# Altium footprint library CTMBLib.PcbLib: 6 footprints
Each footprint in its own frame and in the unit in brackets; x right, y up, seen from the top. Pads: shape width x height; smd on the part's side, far side on the other; paste and mask are expansions set on the pad; w line width, h text height; cw(c..) or ccw(c..) is an arc to the next point about the centre after c.
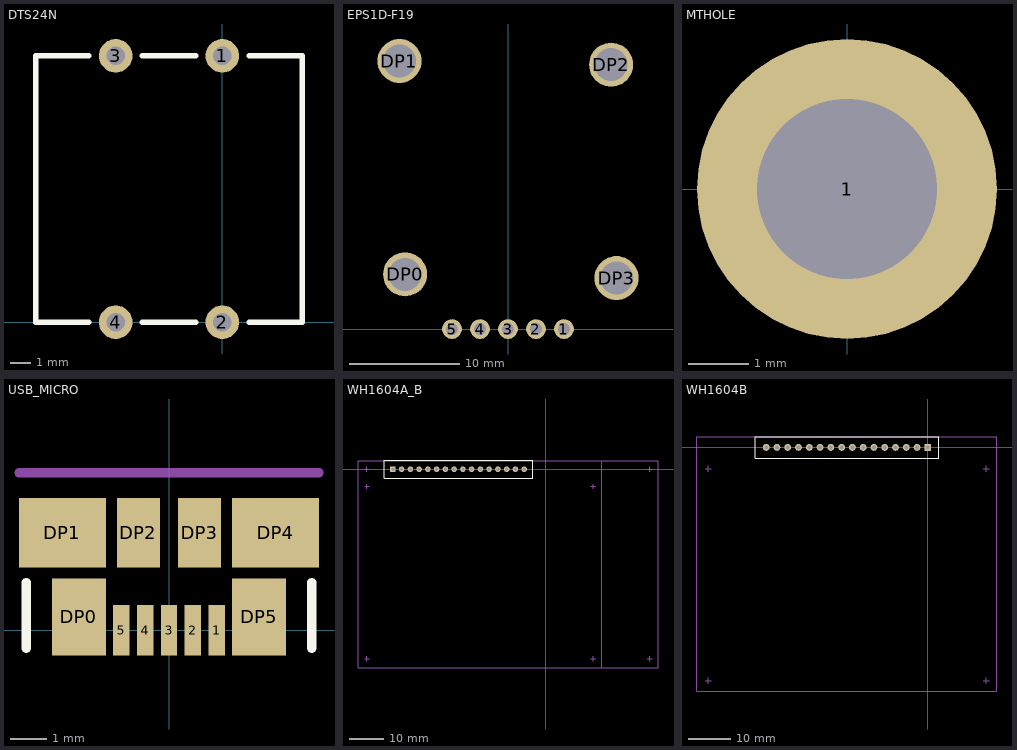
[diagram p0: the footprints below, top view; thin cyan lines are the x and y axes]

## DTS24N [mm]
pads (4):
  round 1.6 hole 0.9: 1(0,12.7) 2(0,0) 3(-5.08,12.7) 4(-5.08,0)
Top Overlay:
  lines w0.254: -6.35,0 -8.89,0 -8.89,12.7 -6.35,12.7 ; -3.81,0 -1.27,0 ; -3.81,12.7 -1.27,12.7 ; 1.27,0 3.81,0 3.81,12.7 1.27,12.7

## EPS1D-F19 [mm]
pads (9):
  round 1.8 hole 1.1: 1(5.08,0) 2(2.54,0) 3(0,0) 4(-2.54,0) 5(-5.08,0)
  round 4 hole 3: DP0(-9.34,4.97) DP1(-9.85,24.33) DP2(9.36,24) DP3(9.85,4.63)

## MTHOLE [mm]
pads (1):
  round 5 hole 3: 1(0,0)

## USB_MICRO [mm]
pads (11):
  rect 0.45x1.38 smd: 1(1.3,0) 2(0.65,0) 3(0,0) 4(-0.65,0) 5(-1.3,0)
  rect 1.475x2.1 smd: DP0(-2.462,0.36) DP5(2.462,0.36)
  rect 2.375x1.9 smd: DP1(-2.913,2.66) DP4(2.913,2.66)
  rect 1.175x1.9 smd: DP2(-0.837,2.66) DP3(0.837,2.66)
Top Overlay:
  lines w0.254: -3.9,-0.5 -3.9,1.3 ; 3.9,-0.5 3.9,1.3
Mechanical 3:
  lines w0.254: -4.1,4.3 4.1,4.3

## WH1604A_B [mm]
height 5
pads (16):
  rect 1.6x1.6 hole 0.9: 1(-44.3,0)
  round 1.6 hole 0.9: 2(-41.76,0) 3(-39.22,0) 4(-36.68,0) 5(-34.14,0) 6(-31.6,0) 7(-29.06,0) 8(-26.52,0) 9(-23.98,0) 10(-21.44,0) 11(-18.9,0) 12(-16.36,0) 13(-13.82,0) 14(-11.28,0) 15(-8.74,0) 16(-6.2,0)
Top Overlay:
  lines w0.254: -46.84,-2.54 -3.66,-2.54 -3.66,2.54 -46.84,2.54 -46.84,-2.54
Mechanical 3:
  lines w0.254: -52.5,-55 -51.8,-55 ; -52.5,-5 -51.8,-5 ; -52.5,0 -51.8,0 ; -51.8,-55.7 -51.8,-55 ; -51.8,-54.3 -51.8,-55 ; -51.8,-5.7 -51.8,-5 ; -51.8,-4.3 -51.8,-5 ; -51.8,-0.7 -51.8,0 ; -51.8,0.7 -51.8,0 ; -51.1,-55 -51.8,-55 ; -51.1,-5 -51.8,-5 ; -51.1,0 -51.8,0 ; 13.1,-55 13.8,-55 ; 13.1,-5 13.8,-5 ; 13.8,-55.7 13.8,-55 ; 13.8,-54.3 13.8,-55 ; 13.8,-5.7 13.8,-5 ; 13.8,-4.3 13.8,-5 ; 14.5,-55 13.8,-55 ; 14.5,-5 13.8,-5 ; 16.3,-57.5 16.3,2.5 ; 29.5,-55 30.2,-55 ; 29.5,0 30.2,0 ; 30.2,-55.7 30.2,-55 ; 30.2,-54.3 30.2,-55 ; 30.2,-0.7 30.2,0 ; 30.2,0.7 30.2,0 ; 30.9,-55 30.2,-55 ; 30.9,0 30.2,0 ; -54.4,-57.5 32.6,-57.5 32.6,2.5 0,2.5 -54.4,2.5 -54.4,-57.5
3D body: height 15, standoff 14, extent -54.527,-57.627 16.427,2.667
3D body: height 5, standoff 0, extent -46.967,-2.667 -3.533,2.667
3D body: height 5, standoff 0, extent -45.202,-0.902 -5.298,0.902

## WH1604B [mm]
height 5
pads (16):
  rect 1.6x1.6 hole 0.9: 1(0,0)
  round 1.6 hole 0.9: 2(-2.54,0) 3(-5.08,0) 4(-7.62,0) 5(-10.16,0) 6(-12.7,0) 7(-15.24,0) 8(-17.78,0) 9(-20.32,0) 10(-22.86,0) 11(-25.4,0) 12(-27.94,0) 13(-30.48,0) 14(-33.02,0) 15(-35.56,0) 16(-38.1,0)
Top Overlay:
  lines w0.254: -40.64,-2.54 2.54,-2.54 2.54,2.54 -40.64,2.54 -40.64,-2.54
Mechanical 3:
  lines w0.254: -52.5,-55 -51.8,-55 ; -52.5,-5 -51.8,-5 ; -51.8,-55.7 -51.8,-55 ; -51.8,-54.3 -51.8,-55 ; -51.8,-5.7 -51.8,-5 ; -51.8,-4.3 -51.8,-5 ; -51.1,-55 -51.8,-55 ; -51.1,-5 -51.8,-5 ; 13.1,-55 13.8,-55 ; 13.1,-5 13.8,-5 ; 13.8,-55.7 13.8,-55 ; 13.8,-54.3 13.8,-55 ; 13.8,-5.7 13.8,-5 ; 13.8,-4.3 13.8,-5 ; 14.5,-55 13.8,-55 ; 14.5,-5 13.8,-5 ; -54.4,-57.5 -54.4,2.5 0,2.5 16.3,2.5 16.3,-57.5 -54.4,-57.5
3D body: height 5, standoff 0, extent -40.767,-2.667 2.667,2.667
3D body: height 5, standoff 0, extent -39.002,-0.902 0.902,0.902
3D body: height 15, standoff 14, extent -54.527,-57.627 16.427,2.667